# Altium footprint library DIODES PTH.PcbLib: 146 footprints (part 10 of 10)
Each footprint in its own frame and in the unit in brackets; x right, y up, seen from the top. Pads: shape width x height; smd on the part's side, far side on the other; paste and mask are expansions set on the pad; w line width, h text height; cw(c..) or ccw(c..) is an arc to the next point about the centre after c.
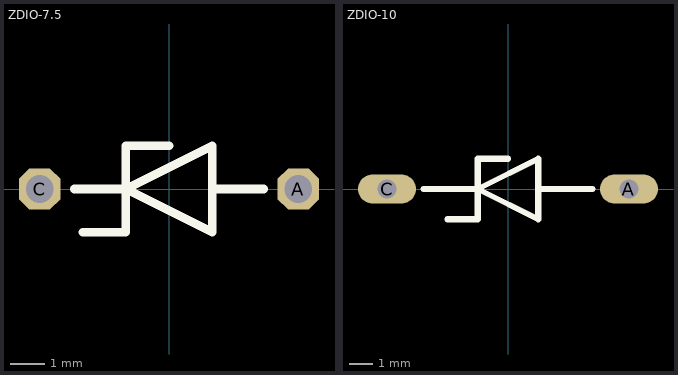
[diagram p9: the footprints below, top view; thin cyan lines are the x and y axes]

## ZDIO-7.5 [mil]
pads (2):
  oct 48x48 hole 32: A(150,0) C(-150,0)
Top Overlay:
  lines w10: -110,0 -50,0 ; -100,-50 -50,-50 -50,0 ; 0,50 -50,50 -50,0 ; 110,0 50,0 ; -50,0 50,-50 50,0 ; -50,0 50,50 50,0

## ZDIO-10 [mil]
pads (2):
  oval 96x48 hole 32: A(200,0) C(-200,0)
Top Overlay:
  lines w10: -140,0 -50,0 ; -100,-50 -50,-50 -50,0 ; 0,50 -50,50 -50,0 ; 140,0 50,0 ; -50,0 50,-50 50,0 ; -50,0 50,50 50,0